# Altium footprint library Adafruit Trellis.PCBLIB: 2 footprints
Each footprint in its own frame and in the unit in brackets; x right, y up, seen from the top. Pads: shape width x height; smd on the part's side, far side on the other; paste and mask are expansions set on the pad; w line width, h text height; cw(c..) or ccw(c..) is an arc to the next point about the centre after c.
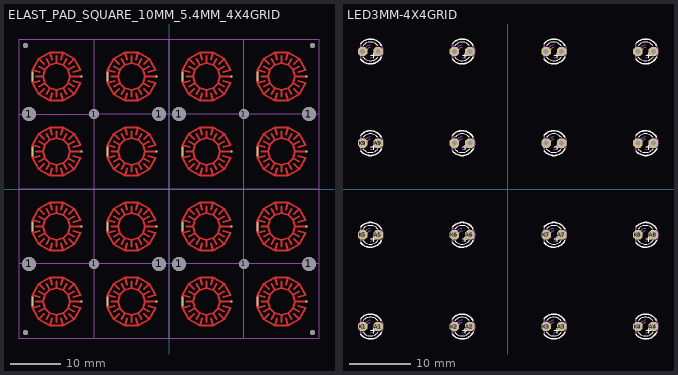
[diagram p0: the footprints below, top view; thin cyan lines are the x and y axes]

## ELAST_PAD_SQUARE_10MM_5.4MM_4X4GRID [mm]
pads (48):
  round 1 hole 1: 1(-28.7,-28.7) 1(-28.7,28.7) 1(28.7,-28.7) 1(28.7,28.7)
  round 2.8 hole 2.8: 1(-28,-15) 1(-28,15) 1(-2,-15) 1(-2,15) 1(2,-15) 1(2,15) 1(28,-15) 1(28,15)
  round 2 hole 2: 1(-15,-15) 1(-15,15) 1(15,-15) 1(15,15)
  rect 0.4x0.4 smd: A1(-17.5,-22.5) A2(-2.5,-22.5) A3(12.5,-22.5) A4(27.5,-22.5) A5(-17.5,-7.5) A6(-2.5,-7.5) A7(12.5,-7.5) A8(27.5,-7.5) A9(-17.5,7.5) A10(-2.5,7.5) A11(12.5,7.5) A12(27.5,7.5) A13(-17.5,22.5) A14(-2.5,22.5) A15(12.5,22.5) A16(27.5,22.5)
  rect 0.4x2 smd: B1(-27.33,-22.51) B2(-12.33,-22.51) B3(2.67,-22.51) B4(17.67,-22.51) B5(-27.33,-7.51) B6(-12.33,-7.51) B7(2.67,-7.51) B8(17.67,-7.51) B9(-27.33,7.49) B10(-12.33,7.49) B11(2.67,7.49) B12(17.67,7.49) B13(-27.33,22.49) B14(-12.33,22.49) B15(2.67,22.49) B16(17.67,22.49)
Top Layer:
  lines w0.4: -26.55,-22.5 -25.2,-22.5 ; -26.55,-7.5 -25.2,-7.5 ; -26.55,7.5 -25.2,7.5 ; -26.55,22.5 -25.2,22.5 ; -26.007,-24.525 -24.838,-23.85 ; -26.007,-20.475 -24.838,-21.15 ; -26.007,-9.525 -24.838,-8.85 ; -26.007,-5.475 -24.838,-6.15 ; -26.007,5.475 -24.838,6.15 ; -26.007,9.525 -24.838,8.85 ; -26.007,20.475 -24.838,21.15 ; -26.007,24.525 -24.838,23.85 ; -25.881,-23.406 -27.33,-23.794 ; -25.881,-21.594 -27.33,-21.206 ; -25.881,-8.406 -27.33,-8.794 ; -25.881,-6.594 -27.33,-6.206 ; -25.881,6.594 -27.33,6.206 ; -25.881,8.406 -27.33,8.794 ; -25.881,21.594 -27.33,21.206 ; -25.881,23.406 -27.33,23.794 ; -24.975,-24.975 -26.036,-26.036 ; -24.975,-20.025 -26.036,-18.964 ; -24.975,-9.975 -26.036,-11.036 ; -24.975,-5.025 -26.036,-3.964 ; -24.975,5.025 -26.036,3.964 ; -24.975,9.975 -26.036,11.036 ; -24.975,20.025 -26.036,18.964 ; -24.975,24.975 -26.036,26.036 ; -24.525,-26.007 -23.85,-24.838 ; -24.525,-18.993 -23.85,-20.162 ; -24.525,-11.007 -23.85,-9.838 ; -24.525,-3.993 -23.85,-5.162 ; -24.525,3.993 -23.85,5.162 ; -24.525,11.007 -23.85,9.838 ; -24.525,18.993 -23.85,20.162 ; -24.525,26.007 -23.85,24.838 ; -23.406,-25.881 -23.794,-27.33 ; -23.406,-19.119 -23.794,-17.67 ; -23.406,-10.881 -23.794,-12.33 ; -23.406,-4.119 -23.794,-2.67 ; -23.406,4.119 -23.794,2.67 ; -23.406,10.881 -23.794,12.33 ; -23.406,19.119 -23.794,17.67 ; -23.406,25.881 -23.794,27.33 ; -22.5,-26.55 -22.5,-25.2 ; -22.5,-18.45 -22.5,-19.8 ; -22.5,-11.55 -22.5,-10.2 ; -22.5,-3.45 -22.5,-4.8 ; -22.5,3.45 -22.5,4.8 ; -22.5,11.55 -22.5,10.2 ; -22.5,18.45 -22.5,19.8 ; -22.5,26.55 -22.5,25.2 ; -21.594,-25.881 -21.206,-27.33 ; -21.594,-19.119 -21.206,-17.67 ; -21.594,-10.881 -21.206,-12.33 ; -21.594,-4.119 -21.206,-2.67 ; -21.594,4.119 -21.206,2.67 ; -21.594,10.881 -21.206,12.33 ; -21.594,19.119 -21.206,17.67 ; -21.594,25.881 -21.206,27.33 ; -20.475,-26.007 -21.15,-24.838 ; -20.475,-18.993 -21.15,-20.162 ; -20.475,-11.007 -21.15,-9.838 ; -20.475,-3.993 -21.15,-5.162 ; -20.475,3.993 -21.15,5.162 ; -20.475,11.007 -21.15,9.838 ; -20.475,18.993 -21.15,20.162 ; -20.475,26.007 -21.15,24.838 ; -20.025,-24.975 -18.964,-26.036 ; -20.025,-20.025 -18.964,-18.964 ; -20.025,-9.975 -18.964,-11.036 ; -20.025,-5.025 -18.964,-3.964 ; -20.025,5.025 -18.964,3.964 ; -20.025,9.975 -18.964,11.036 ; -20.025,20.025 -18.964,18.964 ; -20.025,24.975 -18.964,26.036 ; -19.119,-23.406 -17.67,-23.794 -18.964,-26.036 ; -19.119,-21.594 -17.67,-21.206 -18.964,-18.964 ; -19.119,-8.406 -17.67,-8.794 -18.964,-11.036 ; -19.119,-6.594 -17.67,-6.206 -18.964,-3.964 ; -19.119,6.594 -17.67,6.206 -18.964,3.964 ; -19.119,8.406 -17.67,8.794 -18.964,11.036 ; -19.119,21.594 -17.67,21.206 -18.964,18.964 ; -19.119,23.406 -17.67,23.794 -18.964,26.036 ; -18.993,-24.525 -20.162,-23.85 ; -18.993,-20.475 -20.162,-21.15 ; -18.993,-9.525 -20.162,-8.85 ; -18.993,-5.475 -20.162,-6.15 ; -18.993,5.475 -20.162,6.15 ; -18.993,9.525 -20.162,8.85 ; -18.993,20.475 -20.162,21.15 ; -18.993,24.525 -20.162,23.85 ; -17.55,-22.5 -19.8,-22.5 ; -17.55,-7.5 -19.8,-7.5 ; -17.55,7.5 -19.8,7.5 ; -17.55,22.5 -19.8,22.5 ; -11.55,-22.5 -10.2,-22.5 ; -11.55,-7.5 -10.2,-7.5 ; -11.55,7.5 -10.2,7.5 ; -11.55,22.5 -10.2,22.5 ; -11.007,-24.525 -9.838,-23.85 ; -11.007,-20.475 -9.838,-21.15 ; -11.007,-9.525 -9.838,-8.85 ; -11.007,-5.475 -9.838,-6.15 ; -11.007,5.475 -9.838,6.15 ; -11.007,9.525 -9.838,8.85 ; -11.007,20.475 -9.838,21.15 ; -11.007,24.525 -9.838,23.85 ; -10.881,-23.406 -12.33,-23.794 ; -10.881,-21.594 -12.33,-21.206 ; -10.881,-8.406 -12.33,-8.794 ; -10.881,-6.594 -12.33,-6.206 ; -10.881,6.594 -12.33,6.206 ; -10.881,8.406 -12.33,8.794 ; -10.881,21.594 -12.33,21.206 ; -10.881,23.406 -12.33,23.794 ; -9.975,-24.975 -11.036,-26.036 ; -9.975,-20.025 -11.036,-18.964 ; -9.975,-9.975 -11.036,-11.036 ; -9.975,-5.025 -11.036,-3.964 ; -9.975,5.025 -11.036,3.964 ; -9.975,9.975 -11.036,11.036 ; -9.975,20.025 -11.036,18.964 ; -9.975,24.975 -11.036,26.036 ; -9.525,-26.007 -8.85,-24.838 ; -9.525,-18.993 -8.85,-20.162 ; -9.525,-11.007 -8.85,-9.838 ; -9.525,-3.993 -8.85,-5.162 ; -9.525,3.993 -8.85,5.162 ; -9.525,11.007 -8.85,9.838 ; -9.525,18.993 -8.85,20.162 ; -9.525,26.007 -8.85,24.838 ; -8.406,-25.881 -8.794,-27.33 ; -8.406,-19.119 -8.794,-17.67 ; -8.406,-10.881 -8.794,-12.33 ; -8.406,-4.119 -8.794,-2.67 ; -8.406,4.119 -8.794,2.67 ; -8.406,10.881 -8.794,12.33 ; -8.406,19.119 -8.794,17.67 ; -8.406,25.881 -8.794,27.33 ; -7.5,-26.55 -7.5,-25.2 ; -7.5,-18.45 -7.5,-19.8 ; -7.5,-11.55 -7.5,-10.2 ; -7.5,-3.45 -7.5,-4.8 ; -7.5,3.45 -7.5,4.8 ; -7.5,11.55 -7.5,10.2 ; -7.5,18.45 -7.5,19.8 ; -7.5,26.55 -7.5,25.2 ; -6.594,-25.881 -6.206,-27.33 ; -6.594,-19.119 -6.206,-17.67 ; -6.594,-10.881 -6.206,-12.33 ; -6.594,-4.119 -6.206,-2.67 ; -6.594,4.119 -6.206,2.67 ; -6.594,10.881 -6.206,12.33 ; -6.594,19.119 -6.206,17.67 ; -6.594,25.881 -6.206,27.33 ; -5.475,-26.007 -6.15,-24.838 ; -5.475,-18.993 -6.15,-20.162 ; -5.475,-11.007 -6.15,-9.838 ; -5.475,-3.993 -6.15,-5.162 ; -5.475,3.993 -6.15,5.162 ; -5.475,11.007 -6.15,9.838 ; -5.475,18.993 -6.15,20.162 ; -5.475,26.007 -6.15,24.838 ; -5.025,-24.975 -3.964,-26.036 ; -5.025,-20.025 -3.964,-18.964 ; -5.025,-9.975 -3.964,-11.036 ; -5.025,-5.025 -3.964,-3.964 ; -5.025,5.025 -3.964,3.964 ; -5.025,9.975 -3.964,11.036 ; -5.025,20.025 -3.964,18.964 ; -5.025,24.975 -3.964,26.036 ; -4.119,-23.406 -2.67,-23.794 -3.964,-26.036 ; -4.119,-21.594 -2.67,-21.206 -3.964,-18.964 ; -4.119,-8.406 -2.67,-8.794 -3.964,-11.036 ; -4.119,-6.594 -2.67,-6.206 -3.964,-3.964 ; -4.119,6.594 -2.67,6.206 -3.964,3.964 ; -4.119,8.406 -2.67,8.794 -3.964,11.036 ; -4.119,21.594 -2.67,21.206 -3.964,18.964 ; -4.119,23.406 -2.67,23.794 -3.964,26.036 ; -3.993,-24.525 -5.162,-23.85 ; -3.993,-20.475 -5.162,-21.15 ; -3.993,-9.525 -5.162,-8.85 ; -3.993,-5.475 -5.162,-6.15 ; -3.993,5.475 -5.162,6.15 ; -3.993,9.525 -5.162,8.85 ; -3.993,20.475 -5.162,21.15 ; -3.993,24.525 -5.162,23.85 ; -2.55,-22.5 -4.8,-22.5 ; -2.55,-7.5 -4.8,-7.5 ; -2.55,7.5 -4.8,7.5 ; -2.55,22.5 -4.8,22.5 ; 3.45,-22.5 4.8,-22.5 ; 3.45,-7.5 4.8,-7.5 ; 3.45,7.5 4.8,7.5 ; 3.45,22.5 4.8,22.5 ; 3.993,-24.525 5.162,-23.85 ; 3.993,-20.475 5.162,-21.15 ; 3.993,-9.525 5.162,-8.85 ; 3.993,-5.475 5.162,-6.15 ; 3.993,5.475 5.162,6.15 ; 3.993,9.525 5.162,8.85 ; 3.993,20.475 5.162,21.15 ; 3.993,24.525 5.162,23.85 ; 4.119,-23.406 2.67,-23.794 ; 4.119,-21.594 2.67,-21.206 ; 4.119,-8.406 2.67,-8.794 ; 4.119,-6.594 2.67,-6.206 ; 4.119,6.594 2.67,6.206 ; 4.119,8.406 2.67,8.794 ; 4.119,21.594 2.67,21.206 ; 4.119,23.406 2.67,23.794 ; 5.025,-24.975 3.964,-26.036 ; 5.025,-20.025 3.964,-18.964 ; 5.025,-9.975 3.964,-11.036 ; 5.025,-5.025 3.964,-3.964 ; 5.025,5.025 3.964,3.964 ; 5.025,9.975 3.964,11.036 ; 5.025,20.025 3.964,18.964 ; 5.025,24.975 3.964,26.036 ; 5.475,-26.007 6.15,-24.838 ; 5.475,-18.993 6.15,-20.162 ; 5.475,-11.007 6.15,-9.838 ; 5.475,-3.993 6.15,-5.162 ; 5.475,3.993 6.15,5.162 ; 5.475,11.007 6.15,9.838 ; 5.475,18.993 6.15,20.162 ; 5.475,26.007 6.15,24.838 ; 6.594,-25.881 6.206,-27.33 ; 6.594,-19.119 6.206,-17.67 ; 6.594,-10.881 6.206,-12.33 ; 6.594,-4.119 6.206,-2.67 ; 6.594,4.119 6.206,2.67 ; 6.594,10.881 6.206,12.33 ; 6.594,19.119 6.206,17.67 ; 6.594,25.881 6.206,27.33 ; 7.5,-26.55 7.5,-25.2 ; 7.5,-18.45 7.5,-19.8 ; 7.5,-11.55 7.5,-10.2 ; 7.5,-3.45 7.5,-4.8 ; 7.5,3.45 7.5,4.8 ; 7.5,11.55 7.5,10.2 ; 7.5,18.45 7.5,19.8 ; 7.5,26.55 7.5,25.2 ; 8.406,-25.881 8.794,-27.33 ; 8.406,-19.119 8.794,-17.67 ; 8.406,-10.881 8.794,-12.33 ; 8.406,-4.119 8.794,-2.67 ; 8.406,4.119 8.794,2.67 ; 8.406,10.881 8.794,12.33 ; 8.406,19.119 8.794,17.67 ; 8.406,25.881 8.794,27.33 ; 9.525,-26.007 8.85,-24.838 ; 9.525,-18.993 8.85,-20.162 ; 9.525,-11.007 8.85,-9.838 ; 9.525,-3.993 8.85,-5.162 ; 9.525,3.993 8.85,5.162 ; 9.525,11.007 8.85,9.838 ; 9.525,18.993 8.85,20.162 ; 9.525,26.007 8.85,24.838 ; 9.975,-24.975 11.036,-26.036 ; 9.975,-20.025 11.036,-18.964 ; 9.975,-9.975 11.036,-11.036 ; 9.975,-5.025 11.036,-3.964 ; 9.975,5.025 11.036,3.964 ; 9.975,9.975 11.036,11.036 ; 9.975,20.025 11.036,18.964 ; 9.975,24.975 11.036,26.036 ; 10.881,-23.406 12.33,-23.794 11.036,-26.036 ; 10.881,-21.594 12.33,-21.206 11.036,-18.964 ; 10.881,-8.406 12.33,-8.794 11.036,-11.036 ; 10.881,-6.594 12.33,-6.206 11.036,-3.964 ; 10.881,6.594 12.33,6.206 11.036,3.964 ; 10.881,8.406 12.33,8.794 11.036,11.036 ; 10.881,21.594 12.33,21.206 11.036,18.964 ; 10.881,23.406 12.33,23.794 11.036,26.036 ; 11.007,-24.525 9.838,-23.85 ; 11.007,-20.475 9.838,-21.15 ; 11.007,-9.525 9.838,-8.85 ; 11.007,-5.475 9.838,-6.15 ; 11.007,5.475 9.838,6.15 ; 11.007,9.525 9.838,8.85 ; 11.007,20.475 9.838,21.15 ; 11.007,24.525 9.838,23.85 ; 12.45,-22.5 10.2,-22.5 ; 12.45,-7.5 10.2,-7.5 ; 12.45,7.5 10.2,7.5 ; 12.45,22.5 10.2,22.5 ; 18.45,-22.5 19.8,-22.5 ; 18.45,-7.5 19.8,-7.5 ; 18.45,7.5 19.8,7.5 ; 18.45,22.5 19.8,22.5 ; 18.993,-24.525 20.162,-23.85 ; 18.993,-20.475 20.162,-21.15 ; 18.993,-9.525 20.162,-8.85 ; 18.993,-5.475 20.162,-6.15 ; 18.993,5.475 20.162,6.15 ; 18.993,9.525 20.162,8.85 ; 18.993,20.475 20.162,21.15 ; 18.993,24.525 20.162,23.85 ; 19.119,-23.406 17.67,-23.794 ; 19.119,-21.594 17.67,-21.206 ; 19.119,-8.406 17.67,-8.794 ; 19.119,-6.594 17.67,-6.206 ; 19.119,6.594 17.67,6.206 ; 19.119,8.406 17.67,8.794 ; 19.119,21.594 17.67,21.206 ; 19.119,23.406 17.67,23.794 ; 20.025,-24.975 18.964,-26.036 ; 20.025,-20.025 18.964,-18.964 ; 20.025,-9.975 18.964,-11.036 ; 20.025,-5.025 18.964,-3.964 ; 20.025,5.025 18.964,3.964 ; 20.025,9.975 18.964,11.036 ; 20.025,20.025 18.964,18.964 ; 20.025,24.975 18.964,26.036 ; 20.475,-26.007 21.15,-24.838 ; 20.475,-18.993 21.15,-20.162 ; 20.475,-11.007 21.15,-9.838 ; 20.475,-3.993 21.15,-5.162 ; 20.475,3.993 21.15,5.162 ; 20.475,11.007 21.15,9.838 ; 20.475,18.993 21.15,20.162 ; 20.475,26.007 21.15,24.838 ; 21.594,-25.881 21.206,-27.33 ; 21.594,-19.119 21.206,-17.67 ; 21.594,-10.881 21.206,-12.33 ; 21.594,-4.119 21.206,-2.67 ; 21.594,4.119 21.206,2.67 ; 21.594,10.881 21.206,12.33 ; 21.594,19.119 21.206,17.67 ; 21.594,25.881 21.206,27.33 ; 22.5,-26.55 22.5,-25.2 ; 22.5,-18.45 22.5,-19.8 ; 22.5,-11.55 22.5,-10.2 ; 22.5,-3.45 22.5,-4.8 ; 22.5,3.45 22.5,4.8 ; 22.5,11.55 22.5,10.2 ; 22.5,18.45 22.5,19.8 ; 22.5,26.55 22.5,25.2 ; 23.406,-25.881 23.794,-27.33 ; 23.406,-19.119 23.794,-17.67 ; 23.406,-10.881 23.794,-12.33 ; 23.406,-4.119 23.794,-2.67 ; 23.406,4.119 23.794,2.67 ; 23.406,10.881 23.794,12.33 ; 23.406,19.119 23.794,17.67 ; 23.406,25.881 23.794,27.33 ; 24.525,-26.007 23.85,-24.838 ; 24.525,-18.993 23.85,-20.162 ; 24.525,-11.007 23.85,-9.838 ; 24.525,-3.993 23.85,-5.162 ; 24.525,3.993 23.85,5.162 ; 24.525,11.007 23.85,9.838 ; 24.525,18.993 23.85,20.162 ; 24.525,26.007 23.85,24.838 ; 24.975,-24.975 26.036,-26.036 ; 24.975,-20.025 26.036,-18.964 ; 24.975,-9.975 26.036,-11.036 ; 24.975,-5.025 26.036,-3.964 ; 24.975,5.025 26.036,3.964 ; 24.975,9.975 26.036,11.036 ; 24.975,20.025 26.036,18.964 ; 24.975,24.975 26.036,26.036 ; 25.881,-23.406 27.33,-23.794 26.036,-26.036 ; 25.881,-21.594 27.33,-21.206 26.036,-18.964 ; 25.881,-8.406 27.33,-8.794 26.036,-11.036 ; 25.881,-6.594 27.33,-6.206 26.036,-3.964 ; 25.881,6.594 27.33,6.206 26.036,3.964 ; 25.881,8.406 27.33,8.794 26.036,11.036 ; 25.881,21.594 27.33,21.206 26.036,18.964 ; 25.881,23.406 27.33,23.794 26.036,26.036 ; 26.007,-24.525 24.838,-23.85 ; 26.007,-20.475 24.838,-21.15 ; 26.007,-9.525 24.838,-8.85 ; 26.007,-5.475 24.838,-6.15 ; 26.007,5.475 24.838,6.15 ; 26.007,9.525 24.838,8.85 ; 26.007,20.475 24.838,21.15 ; 26.007,24.525 24.838,23.85 ; 27.45,-22.5 25.2,-22.5 ; 27.45,-7.5 25.2,-7.5 ; 27.45,7.5 25.2,7.5 ; 27.45,22.5 25.2,22.5 ; -27.33,-23.794 -27.33,-21.206 ; -27.33,-23.794 -26.036,-26.036 ; -27.33,-21.206 -26.036,-18.964 ; -27.33,-8.794 -27.33,-6.206 ; -27.33,-8.794 -26.036,-11.036 ; -27.33,-6.206 -26.036,-3.964 ; -27.33,6.206 -27.33,8.794 ; -27.33,6.206 -26.036,3.964 ; -27.33,8.794 -26.036,11.036 ; -27.33,21.206 -27.33,23.794 ; -27.33,21.206 -26.036,18.964 ; -27.33,23.794 -26.036,26.036 ; -26.036,-26.036 -23.794,-27.33 ; -26.036,-18.964 -23.794,-17.67 ; -26.036,-11.036 -23.794,-12.33 ; -26.036,-3.964 -23.794,-2.67 ; -26.036,3.964 -23.794,2.67 ; -26.036,11.036 -23.794,12.33 ; -26.036,18.964 -23.794,17.67 ; -26.036,26.036 -23.794,27.33 ; -25.2,-22.5 -24.838,-21.15 ; -25.2,-22.5 -24.838,-23.85 ; -25.2,-7.5 -24.838,-6.15 ; -25.2,-7.5 -24.838,-8.85 ; -25.2,7.5 -24.838,8.85 ; -25.2,7.5 -24.838,6.15 ; -25.2,22.5 -24.838,23.85 ; -25.2,22.5 -24.838,21.15 ; -24.838,-23.85 -23.85,-24.838 ; -24.838,-21.15 -23.85,-20.162 ; -24.838,-8.85 -23.85,-9.838 ; -24.838,-6.15 -23.85,-5.162 ; -24.838,6.15 -23.85,5.162 ; -24.838,8.85 -23.85,9.838 ; -24.838,21.15 -23.85,20.162 ; -24.838,23.85 -23.85,24.838 ; -23.85,-24.838 -22.5,-25.2 ; -23.85,-20.162 -22.5,-19.8 ; -23.85,-9.838 -22.5,-10.2 ; -23.85,-5.162 -22.5,-4.8 ; -23.85,5.162 -22.5,4.8 ; -23.85,9.838 -22.5,10.2 ; -23.85,20.162 -22.5,19.8 ; -23.85,24.838 -22.5,25.2 ; -23.794,-27.33 -21.206,-27.33 ; -23.794,-17.67 -21.206,-17.67 ; -23.794,-12.33 -21.206,-12.33 ; -23.794,-2.67 -21.206,-2.67 ; -23.794,2.67 -21.206,2.67 ; -23.794,12.33 -21.206,12.33 ; -23.794,17.67 -21.206,17.67 ; -23.794,27.33 -21.206,27.33 ; -22.5,-25.2 -21.15,-24.838 ; -22.5,-19.8 -21.15,-20.162 ; -22.5,-10.2 -21.15,-9.838 ; -22.5,-4.8 -21.15,-5.162 ; -22.5,4.8 -21.15,5.162 ; -22.5,10.2 -21.15,9.838 ; -22.5,19.8 -21.15,20.162 ; -22.5,25.2 -21.15,24.838 ; -21.206,-27.33 -18.964,-26.036 ; -21.206,-17.67 -18.964,-18.964 ; -21.206,-12.33 -18.964,-11.036 ; -21.206,-2.67 -18.964,-3.964 ; -21.206,2.67 -18.964,3.964 ; -21.206,12.33 -18.964,11.036 ; -21.206,17.67 -18.964,18.964 ; -21.206,27.33 -18.964,26.036 ; -21.15,-24.838 -20.162,-23.85 ; -21.15,-20.162 -20.162,-21.15 ; -21.15,-9.838 -20.162,-8.85 ; -21.15,-5.162 -20.162,-6.15 ; -21.15,5.162 -20.162,6.15 ; -21.15,9.838 -20.162,8.85 ; -21.15,20.162 -20.162,21.15 ; -21.15,24.838 -20.162,23.85 ; -20.162,-23.85 -19.8,-22.5 ; -20.162,-21.15 -19.8,-22.5 ; -20.162,-8.85 -19.8,-7.5 ; -20.162,-6.15 -19.8,-7.5 ; -20.162,6.15 -19.8,7.5 ; -20.162,8.85 -19.8,7.5 ; -20.162,21.15 -19.8,22.5 ; -20.162,23.85 -19.8,22.5 ; -12.33,-23.794 -12.33,-21.206 ; -12.33,-23.794 -11.036,-26.036 ; -12.33,-21.206 -11.036,-18.964 ; -12.33,-8.794 -12.33,-6.206 ; -12.33,-8.794 -11.036,-11.036 ; -12.33,-6.206 -11.036,-3.964 ; -12.33,6.206 -12.33,8.794 ; -12.33,6.206 -11.036,3.964 ; -12.33,8.794 -11.036,11.036 ; -12.33,21.206 -12.33,23.794 ; -12.33,21.206 -11.036,18.964 ; -12.33,23.794 -11.036,26.036 ; -11.036,-26.036 -8.794,-27.33 ; -11.036,-18.964 -8.794,-17.67 ; -11.036,-11.036 -8.794,-12.33 ; -11.036,-3.964 -8.794,-2.67 ; -11.036,3.964 -8.794,2.67 ; -11.036,11.036 -8.794,12.33 ; -11.036,18.964 -8.794,17.67 ; -11.036,26.036 -8.794,27.33 ; -10.2,-22.5 -9.838,-21.15 ; -10.2,-22.5 -9.838,-23.85 ; -10.2,-7.5 -9.838,-6.15 ; -10.2,-7.5 -9.838,-8.85 ; -10.2,7.5 -9.838,8.85 ; -10.2,7.5 -9.838,6.15 ; -10.2,22.5 -9.838,23.85 ; -10.2,22.5 -9.838,21.15 ; -9.838,-23.85 -8.85,-24.838 ; -9.838,-21.15 -8.85,-20.162 ; -9.838,-8.85 -8.85,-9.838 ; -9.838,-6.15 -8.85,-5.162 ; -9.838,6.15 -8.85,5.162 ; -9.838,8.85 -8.85,9.838 ; -9.838,21.15 -8.85,20.162 ; -9.838,23.85 -8.85,24.838 ; -8.85,-24.838 -7.5,-25.2 ; -8.85,-20.162 -7.5,-19.8 ; -8.85,-9.838 -7.5,-10.2 ; -8.85,-5.162 -7.5,-4.8 ; -8.85,5.162 -7.5,4.8 ; -8.85,9.838 -7.5,10.2 ; -8.85,20.162 -7.5,19.8 ; -8.85,24.838 -7.5,25.2 ; -8.794,-27.33 -6.206,-27.33 ; -8.794,-17.67 -6.206,-17.67 ; -8.794,-12.33 -6.206,-12.33 ; -8.794,-2.67 -6.206,-2.67 ; -8.794,2.67 -6.206,2.67 ; -8.794,12.33 -6.206,12.33 ; -8.794,17.67 -6.206,17.67 ; -8.794,27.33 -6.206,27.33 ; -7.5,-25.2 -6.15,-24.838 ; -7.5,-19.8 -6.15,-20.162 ; -7.5,-10.2 -6.15,-9.838 ; -7.5,-4.8 -6.15,-5.162 ; -7.5,4.8 -6.15,5.162 ; -7.5,10.2 -6.15,9.838 ; -7.5,19.8 -6.15,20.162 ; -7.5,25.2 -6.15,24.838 ; -6.206,-27.33 -3.964,-26.036 ; -6.206,-17.67 -3.964,-18.964 ; -6.206,-12.33 -3.964,-11.036 ; -6.206,-2.67 -3.964,-3.964 ; -6.206,2.67 -3.964,3.964 ; -6.206,12.33 -3.964,11.036 ; -6.206,17.67 -3.964,18.964 ; -6.206,27.33 -3.964,26.036 ; -6.15,-24.838 -5.162,-23.85 ; -6.15,-20.162 -5.162,-21.15 ; -6.15,-9.838 -5.162,-8.85 ; -6.15,-5.162 -5.162,-6.15 ; -6.15,5.162 -5.162,6.15 ; -6.15,9.838 -5.162,8.85 ; -6.15,20.162 -5.162,21.15 ; -6.15,24.838 -5.162,23.85 ; -5.162,-23.85 -4.8,-22.5 ; -5.162,-21.15 -4.8,-22.5 ; -5.162,-8.85 -4.8,-7.5 ; -5.162,-6.15 -4.8,-7.5 ; -5.162,6.15 -4.8,7.5 ; -5.162,8.85 -4.8,7.5 ; -5.162,21.15 -4.8,22.5 ; -5.162,23.85 -4.8,22.5 ; 2.67,-23.794 2.67,-21.206 ; 2.67,-23.794 3.964,-26.036 ; 2.67,-21.206 3.964,-18.964 ; 2.67,-8.794 2.67,-6.206 ; 2.67,-8.794 3.964,-11.036 ; 2.67,-6.206 3.964,-3.964 ; 2.67,6.206 2.67,8.794 ; 2.67,6.206 3.964,3.964 ; 2.67,8.794 3.964,11.036 ; 2.67,21.206 2.67,23.794 ; 2.67,21.206 3.964,18.964 ; 2.67,23.794 3.964,26.036 ; 3.964,-26.036 6.206,-27.33 ; 3.964,-18.964 6.206,-17.67 ; 3.964,-11.036 6.206,-12.33 ; 3.964,-3.964 6.206,-2.67 ; 3.964,3.964 6.206,2.67 ; 3.964,11.036 6.206,12.33 ; 3.964,18.964 6.206,17.67 ; 3.964,26.036 6.206,27.33 ; 4.8,-22.5 5.162,-21.15 ; 4.8,-22.5 5.162,-23.85 ; 4.8,-7.5 5.162,-6.15 ; 4.8,-7.5 5.162,-8.85 ; 4.8,7.5 5.162,8.85 ; 4.8,7.5 5.162,6.15 ; 4.8,22.5 5.162,23.85 ; 4.8,22.5 5.162,21.15 ; 5.162,-23.85 6.15,-24.838 ; 5.162,-21.15 6.15,-20.162 ; 5.162,-8.85 6.15,-9.838 ; 5.162,-6.15 6.15,-5.162 ; 5.162,6.15 6.15,5.162 ; 5.162,8.85 6.15,9.838 ; 5.162,21.15 6.15,20.162 ; 5.162,23.85 6.15,24.838 ; 6.15,-24.838 7.5,-25.2 ; 6.15,-20.162 7.5,-19.8 ; 6.15,-9.838 7.5,-10.2 ; 6.15,-5.162 7.5,-4.8 ; 6.15,5.162 7.5,4.8 ; 6.15,9.838 7.5,10.2 ; 6.15,20.162 7.5,19.8 ; 6.15,24.838 7.5,25.2 ; 6.206,-27.33 8.794,-27.33 ; 6.206,-17.67 8.794,-17.67 ; 6.206,-12.33 8.794,-12.33 ; 6.206,-2.67 8.794,-2.67 ; 6.206,2.67 8.794,2.67 ; 6.206,12.33 8.794,12.33 ; 6.206,17.67 8.794,17.67 ; 6.206,27.33 8.794,27.33 ; 7.5,-25.2 8.85,-24.838 ; 7.5,-19.8 8.85,-20.162 ; 7.5,-10.2 8.85,-9.838 ; 7.5,-4.8 8.85,-5.162 ; 7.5,4.8 8.85,5.162 ; 7.5,10.2 8.85,9.838 ; 7.5,19.8 8.85,20.162 ; 7.5,25.2 8.85,24.838 ; 8.794,-27.33 11.036,-26.036 ; 8.794,-17.67 11.036,-18.964 ; 8.794,-12.33 11.036,-11.036 ; 8.794,-2.67 11.036,-3.964 ; 8.794,2.67 11.036,3.964 ; 8.794,12.33 11.036,11.036 ; 8.794,17.67 11.036,18.964 ; 8.794,27.33 11.036,26.036 ; 8.85,-24.838 9.838,-23.85 ; 8.85,-20.162 9.838,-21.15 ; 8.85,-9.838 9.838,-8.85 ; 8.85,-5.162 9.838,-6.15 ; 8.85,5.162 9.838,6.15 ; 8.85,9.838 9.838,8.85 ; 8.85,20.162 9.838,21.15 ; 8.85,24.838 9.838,23.85 ; 9.838,-23.85 10.2,-22.5 ; 9.838,-21.15 10.2,-22.5 ; 9.838,-8.85 10.2,-7.5 ; 9.838,-6.15 10.2,-7.5 ; 9.838,6.15 10.2,7.5 ; 9.838,8.85 10.2,7.5 ; 9.838,21.15 10.2,22.5 ; 9.838,23.85 10.2,22.5 ; 17.67,-23.794 17.67,-21.206 ; 17.67,-23.794 18.964,-26.036 ; 17.67,-21.206 18.964,-18.964 ; 17.67,-8.794 17.67,-6.206 ; 17.67,-8.794 18.964,-11.036 ; 17.67,-6.206 18.964,-3.964 ; 17.67,6.206 17.67,8.794 ; 17.67,6.206 18.964,3.964 ; 17.67,8.794 18.964,11.036 ; 17.67,21.206 17.67,23.794 ; 17.67,21.206 18.964,18.964 ; 17.67,23.794 18.964,26.036 ; 18.964,-26.036 21.206,-27.33 ; 18.964,-18.964 21.206,-17.67 ; 18.964,-11.036 21.206,-12.33 ; 18.964,-3.964 21.206,-2.67 ; 18.964,3.964 21.206,2.67 ; 18.964,11.036 21.206,12.33 ; 18.964,18.964 21.206,17.67 ; 18.964,26.036 21.206,27.33 ; 19.8,-22.5 20.162,-21.15 ; 19.8,-22.5 20.162,-23.85 ; 19.8,-7.5 20.162,-6.15 ; 19.8,-7.5 20.162,-8.85 ; 19.8,7.5 20.162,8.85 ; 19.8,7.5 20.162,6.15 ; 19.8,22.5 20.162,23.85 ; 19.8,22.5 20.162,21.15 ; 20.162,-23.85 21.15,-24.838 ; 20.162,-21.15 21.15,-20.162 ; 20.162,-8.85 21.15,-9.838 ; 20.162,-6.15 21.15,-5.162 ; 20.162,6.15 21.15,5.162 ; 20.162,8.85 21.15,9.838 ; 20.162,21.15 21.15,20.162 ; 20.162,23.85 21.15,24.838 ; 21.15,-24.838 22.5,-25.2 ; 21.15,-20.162 22.5,-19.8 ; 21.15,-9.838 22.5,-10.2 ; 21.15,-5.162 22.5,-4.8 ; 21.15,5.162 22.5,4.8 ; 21.15,9.838 22.5,10.2 ; 21.15,20.162 22.5,19.8 ; 21.15,24.838 22.5,25.2 ; 21.206,-27.33 23.794,-27.33 ; 21.206,-17.67 23.794,-17.67 ; 21.206,-12.33 23.794,-12.33 ; 21.206,-2.67 23.794,-2.67 ; 21.206,2.67 23.794,2.67 ; 21.206,12.33 23.794,12.33 ; 21.206,17.67 23.794,17.67 ; 21.206,27.33 23.794,27.33 ; 22.5,-25.2 23.85,-24.838 ; 22.5,-19.8 23.85,-20.162 ; 22.5,-10.2 23.85,-9.838 ; 22.5,-4.8 23.85,-5.162 ; 22.5,4.8 23.85,5.162 ; 22.5,10.2 23.85,9.838 ; 22.5,19.8 23.85,20.162 ; 22.5,25.2 23.85,24.838 ; 23.794,-27.33 26.036,-26.036 ; 23.794,-17.67 26.036,-18.964 ; 23.794,-12.33 26.036,-11.036 ; 23.794,-2.67 26.036,-3.964 ; 23.794,2.67 26.036,3.964 ; 23.794,12.33 26.036,11.036 ; 23.794,17.67 26.036,18.964 ; 23.794,27.33 26.036,26.036 ; 23.85,-24.838 24.838,-23.85 ; 23.85,-20.162 24.838,-21.15 ; 23.85,-9.838 24.838,-8.85 ; 23.85,-5.162 24.838,-6.15 ; 23.85,5.162 24.838,6.15 ; 23.85,9.838 24.838,8.85 ; 23.85,20.162 24.838,21.15 ; 23.85,24.838 24.838,23.85 ; 24.838,-23.85 25.2,-22.5 ; 24.838,-21.15 25.2,-22.5 ; 24.838,-8.85 25.2,-7.5 ; 24.838,-6.15 25.2,-7.5 ; 24.838,6.15 25.2,7.5 ; 24.838,8.85 25.2,7.5 ; 24.838,21.15 25.2,22.5 ; 24.838,23.85 25.2,22.5
Top Solder:
  circle w3: c-22.5,-22.5 r3.8
  circle w3: c-7.5,-22.5 r3.8
  circle w3: c7.5,-22.5 r3.8
  circle w3: c22.5,-22.5 r3.8
  circle w3: c-22.5,-7.5 r3.8
  circle w3: c-7.5,-7.5 r3.8
  circle w3: c7.5,-7.5 r3.8
  circle w3: c22.5,-7.5 r3.8
  circle w3: c-22.5,7.5 r3.8
  circle w3: c-7.5,7.5 r3.8
  circle w3: c7.5,7.5 r3.8
  circle w3: c22.5,7.5 r3.8
  circle w3: c-22.5,22.5 r3.8
  circle w3: c-7.5,22.5 r3.8
  circle w3: c7.5,22.5 r3.8
  circle w3: c22.5,22.5 r3.8
Mechanical 14:
  lines w0.127: -30,-15 -30,-30 -15,-30 ; -30,-15 -15,-15 ; -30,-15 -30,0 ; -30,0 -15,0 ; -30,0 -30,15 ; -30,15 -15,15 ; -30,15 -30,30 -15,30 ; -15,-30 0,-30 ; -15,-30 -15,-15 ; -15,-15 0,-15 ; -15,-15 -15,0 ; -15,0 0,0 ; -15,0 -15,15 ; -15,15 0,15 ; -15,15 -15,30 ; -15,30 0,30 ; 0,-30 15,-30 ; 0,-30 0,-15 ; 0,-15 15,-15 ; 0,-15 0,0 ; 0,0 15,0 ; 0,0 0,15 ; 0,15 15,15 ; 0,15 0,30 ; 0,30 15,30 ; 15,-30 30,-30 30,-15 ; 15,-30 15,-15 ; 15,-15 30,-15 ; 15,-15 15,0 ; 15,0 30,0 ; 15,0 15,15 ; 15,15 30,15 ; 15,15 15,30 ; 15,30 30,30 30,15 ; 30,-15 30,0 ; 30,0 30,15

## LED3MM-4X4GRID [mil]
pads (32):
  oct 60x60 hole 32: A1(-835.83,-885.83) A2(-245.28,-885.83) A3(345.28,-885.83) A4(935.83,-885.83) A5(-835.83,-295.28) A6(-245.28,-295.28) A7(345.28,-295.28) A8(935.83,-295.28) A9(-835.83,295.28) A10(-245.28,295.28) A11(345.28,295.28) A12(935.83,295.28) A13(-835.83,885.83) A14(-245.28,885.83) A15(345.28,885.83) A16(935.83,885.83) K1(-935.83,-885.83) K2(-345.28,-885.83) K3(245.28,-885.83) K4(835.83,-885.83) K5(-935.83,-295.28) K6(-345.28,-295.28) K7(245.28,-295.28) K8(835.83,-295.28) K9(-935.83,295.28) K10(-345.28,295.28) K11(245.28,295.28) K12(835.83,295.28) K13(-935.83,885.83) K14(-345.28,885.83) K15(245.28,885.83) K16(835.83,885.83)
Top Overlay:
  drawing of 160 lines, arcs and shapes, not listed
Mechanical 16:
  drawing of 176 lines, arcs and shapes, not listed